# Altium schematic symbol library PC817.Schlib: 1 symbol
Pins are listed as number, name and electrical type; pins without a type are passive.

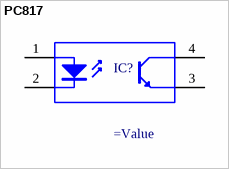
[diagram p0: symbol PC817]

## PC817
designator IC?
=Description
pins: 1 A "Anode", 2 K "Cathode", 3 E "Emitter", 4 C "Collector"